# Altium schematic symbol library SebastianAltiumClass.SchLib: 10 symbols
Pins are listed as number, name and electrical type; pins without a type are passive.

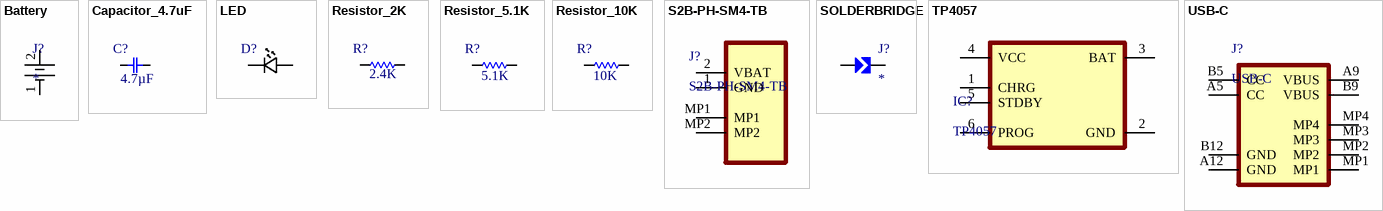
[diagram p0: symbols Battery to USB-C]

## Battery
designator J?
footprint BATTCONNECT
pins: 1, 2

## Capacitor_4.7uF
designator C?, comment Capacitance: 4.7µF  (hidden comment: 4.7uF)
4.7uF Capacitor, 0603
footprint CAP0603
pins: 1, 2

## LED
designator D?  (value not drawn)
LED, 0603
footprint LED0603
pins: 1 K, 2 A

## Resistor_2K
designator R?, comment 2.4K
2.4K Resistor, 0603; Resistance: 2.4K
footprint RES0603
pins: 1, 2

## Resistor_5.1K
designator R?, comment 5.1K
5.1K Resistor, 0603; Resistance: 5.1K
footprint RES0603
pins: 1, 2

## Resistor_10K
designator R?, comment 10K
10K Resistor, 0603; Resistance: 10K
footprint RES0603
pins: 1, 2

## S2B-PH-SM4-TB
designator J?
DigiKey Part - / PH Series 2 pin connector - / S2B-PH-SM4-TB; Manufacturer_Name: JST (JAPAN SOLDERLESS TERMINALS); Manufacturer_Part_Number: S2B-PH-SM4-TB(LF)(SN); Datasheet Link: https://www.jst-mfg.com/product/pdf/eng/ePH.pdf; Height: 6.6mm; Mouser Part Number: N/A; Mouser Price/Stock: https://www.mouser.co.uk/ProductDetail/JST-Commercial/S2B-PH-SM4-TBLFSN?qs=QpmGXVUTftEA9IU90i0xlg%3D%3D; Arrow Part Number: S2B-PH-SM4-TB(LF)(SN); Arrow Price/Stock: https://www.arrow.com/en/products/s2b-ph-sm4-tb-lf-sn/jst-manufacturing?utm_currency=USD&region=europe
footprint S2BPHSM4TBLFSN
pins: 1 GND, 2 VBAT, MP1, MP2

## SOLDERBRIDGE
designator J?
footprint SOLDERBRIDGE
pins: 1, 2

## TP4057
designator IC?
Lithium-Ion Battery Charger, 500mA max; Manufacturer_Name: Nanjing Extension Microelectronics; Manufacturer_Part_Number: TP4057-42-SOT26-R; Datasheet Link: https://datasheet.lcsc.com/szlcsc/Nanjing-Extension-Microelectronics-TP4057_C12044.pdf; Height: 1.25mm
footprint SOT95P280X125-6N
pins: 1 CHRG, 2 GND, 3 BAT, 4 VCC, 5 STDBY, 6 PROG

## USB-C
designator J?
USB-C Port, Power Only
footprint USBC
pins: A5 CC, A9 VBUS, A12 GND, B5 CC, B9 VBUS, B12 GND, MP1, MP2, MP3, MP4